# EAGLE library part FT232R (library U-Transceiver)
Future Technology Devices International Ltd. (FTDI) FT232R USB UART IC The FT232R is a USB to serial UART interface
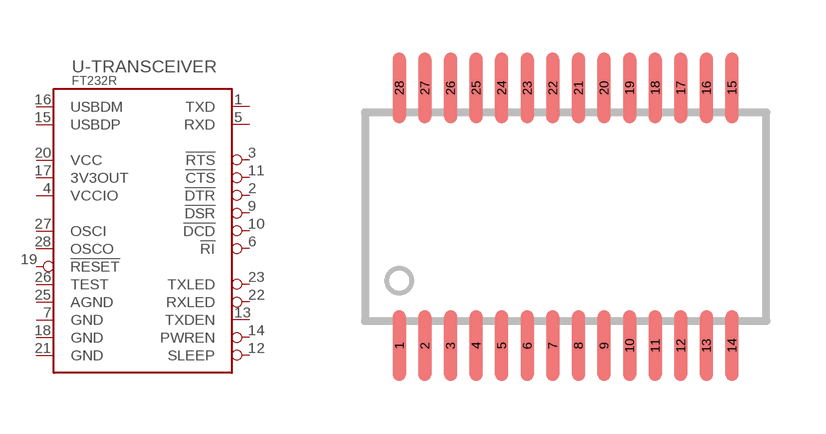
[diagram p4: symbol with the pads of 28SSOP; footprint 28SSOP]

Designator prefix U-TRANSCEIVER

## FT232RL  [28SSOP]
1  TXD  out
2  !DTR!  out
3  !RTS!  out
4  VCCIO  pwr
5  RXD  in
6  !RI!  in
7  GND  pwr
9  !DSR!  in
10  !DCD!  in
11  !CTS!  in
12  SLEEP  out
13  TXDEN  out
14  PWREN  out
15  USBDP  in
16  USBDM  in
17  3V3OUT  out
18  GND  pwr
19  !RESET!  in
20  VCC  pwr
21  GND  pwr
22  RXLED  out
23  TXLED  out
25  AGND  pwr
26  TEST  pas
27  OSCI  in
28  OSCO  out

## Footprint 28SSOP (pad centres in mm)
28POS SHRINK SMALL OUTLINE PLASTIC (28-SSOP)
smd 0.33 x 1.8: 1 -4.225,-3.275; 2 -3.575,-3.275; 3 -2.925,-3.275; 4 -2.275,-3.275; 5 -1.625,-3.275; 6 -0.975,-3.275; 7 -0.325,-3.275; 8 0.325,-3.275; 9 0.975,-3.275; 10 1.625,-3.275; 11 2.275,-3.275; 12 2.925,-3.275; 13 3.575,-3.275; 14 4.225,-3.275; 15 4.225,3.275; 16 3.575,3.275; 17 2.925,3.275; 18 2.275,3.275; 19 1.625,3.275; 20 0.975,3.275; 21 0.325,3.275; 22 -0.325,3.275; 23 -0.975,3.275; 24 -1.625,3.275; 25 -2.275,3.275; 26 -2.925,3.275; 27 -3.575,3.275; 28 -4.225,3.275